# EAGLE library part AD654 (library analog-devices)
Low Cost Monolithic Voltage-to-Frequency Converter
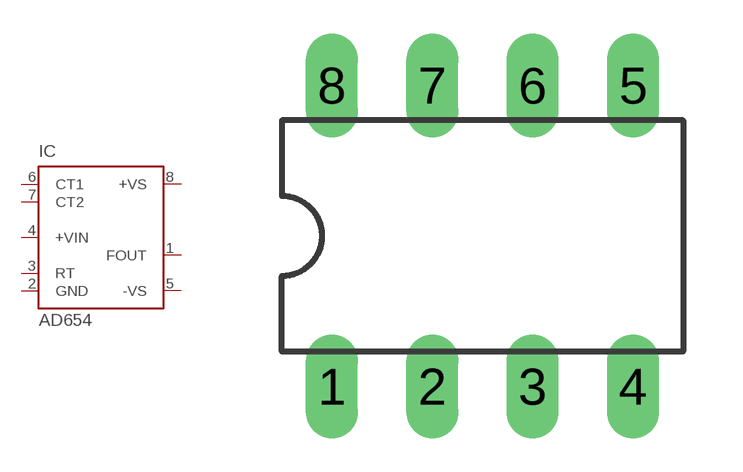
[diagram p3: symbol with the pads of DIL08; footprint DIL08]

Designator prefix IC

## AD654P (MF: ALTERA CORPORATION; MPN: AD654JNZ/+; OC_FARNELL: 9605053; OC_NEWARK: 59K4466)  [DIL08]
1  FOUT  oc
2  GND  pwr
3  RT  pas
4  +VIN  in
5  -VS  pwr
6  CT1  pas
7  CT2  pas
8  +VS  pwr

## Footprint DIL08 (pad centres in mm)
Dual In Line Package
drill 0.813 long: 1 -3.81,-3.81; 2 -1.27,-3.81; 3 1.27,-3.81; 4 3.81,-3.81; 5 3.81,3.81; 6 1.27,3.81; 7 -1.27,3.81; 8 -3.81,3.81